# EAGLE library part FE10-1 (library con-lsta)
FEMALE HEADER
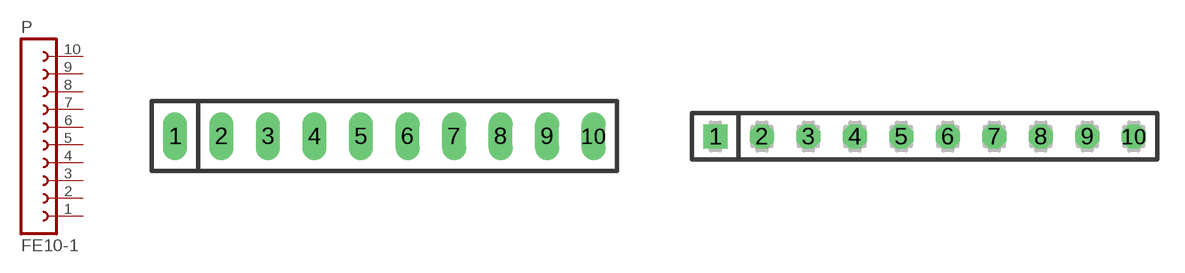
[diagram p24: symbol with the pads of FE10-1Y; footprints FE10-1Y, FE10-1]

Designator prefix P

## FE10-1Y  [FE10-1Y]
1  1  pas
2  2  pas
3  3  pas
4  4  pas
5  5  pas
6  6  pas
7  7  pas
8  8  pas
9  9  pas
10  10  pas

## FE10-1  [FE10-1]
Pads as for FE10-1Y

## Footprint FE10-1Y (pad centres in mm)
FEMALE HEADER
drill 0.813 long: 1 -11.43,0; 2 -8.89,0; 3 -6.35,0; 4 -3.81,0; 5 -1.27,0; 6 1.27,0; 7 3.81,0; 8 6.35,0; 9 8.89,0; 10 11.43,0

## Footprint FE10-1 (pad centres in mm)
drill 0.813 square: 1 -11.43,0
drill 0.813 octagon: 2 -8.89,0; 3 -6.35,0; 4 -3.81,0; 5 -1.27,0; 6 1.27,0; 7 3.81,0; 8 6.35,0; 9 8.89,0; 10 11.43,0